# Altium footprint library PcbLib_POW_HugoHamblok.PcbLib: 26 footprints (part 2 of 2)
Each footprint in its own frame and in the unit in brackets; x right, y up, seen from the top. Pads: shape width x height; smd on the part's side, far side on the other; paste and mask are expansions set on the pad; w line width, h text height; cw(c..) or ccw(c..) is an arc to the next point about the centre after c.
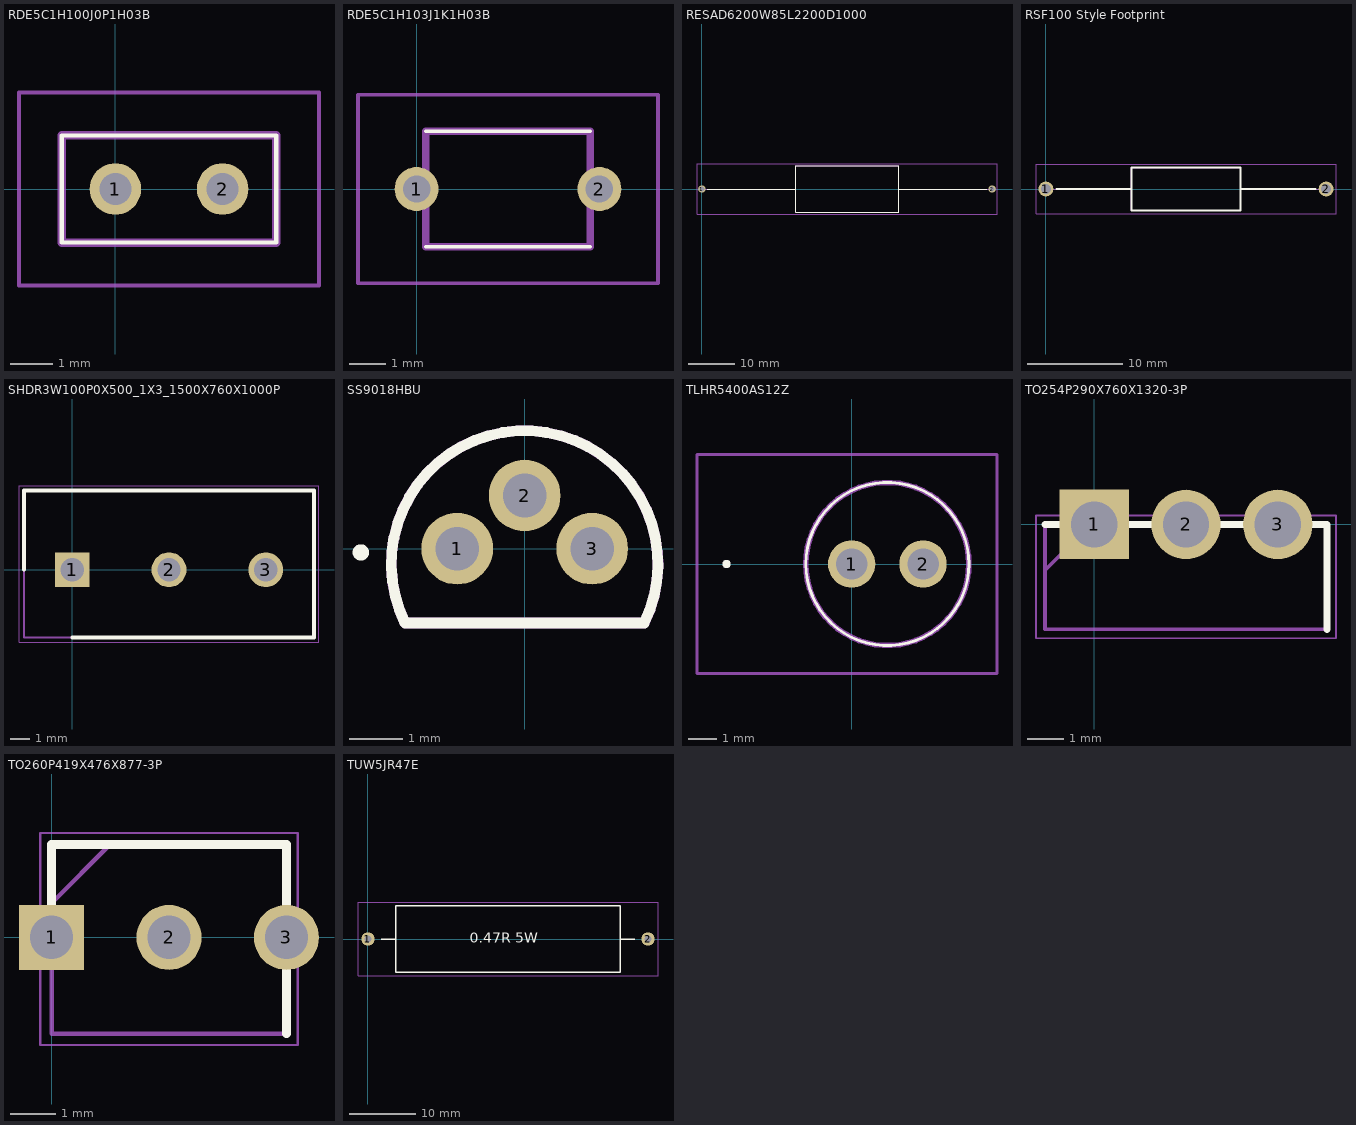
[diagram p1: the footprints below, top view; thin cyan lines are the x and y axes]

## RDE5C1H100J0P1H03B [mm]
pads (2):
  round 1.2 hole 0.75: 1(0,0) 2(2.5,0)
Top Overlay:
  lines w0.1: -1.25,-1.25 -1.25,1.25 3.75,1.25 3.75,-1.25 -1.25,-1.25
Mechanical 13:
  lines w0.2: -1.25,-1.25 -1.25,1.25 3.75,1.25 3.75,-1.25 -1.25,-1.25
Mechanical 15:
  lines w0.1: -2.25,-2.25 -2.25,2.25 4.75,2.25 4.75,-2.25 -2.25,-2.25
3D body "RDER71H104K0S1H03A.stp": height 6.1, standoff -5, extent -1.25,-1.25 3.75,1.25

## RDE5C1H103J1K1H03B [mm]
pads (2):
  round 1.2 hole 0.75: 1(0,0) 2(5,0)
Top Overlay:
  lines w0.1: 0.25,-1.575 4.75,-1.575 ; 0.25,1.575 4.75,1.575
Mechanical 13:
  lines w0.2: 0.25,-1.575 4.75,-1.575 4.75,1.575 0.25,1.575 0.25,-1.575
Mechanical 15:
  lines w0.1: -1.6,-2.575 6.6,-2.575 6.6,2.575 -1.6,2.575 -1.6,-2.575
3D body "RDER71H224K1M1H03A.stp": height 5.1, standoff -5, extent -0.273,-1.575 5.275,1.575

## RESAD6200W85L2200D1000 [mm]
pads (2):
  round 1.575 hole 1.05: 1(0,0) 2(62,0)
Top Overlay:
  lines w0.2: 1.138,0 20,0 ; 42,0 60.862,0 ; 20,-5 42,-5 42,5 20,5 20,-5
Mechanical 13:
  lines w0.1: 0,0 20,0 ; 42,0 62,0 ; 20,-5 42,-5 42,5 20,5 20,-5
Mechanical 15:
  lines w0.05: -1.038,-5.35 63.037,-5.35 63.037,5.35 -1.038,5.35 -1.038,-5.35
3D body "TUW5JR47E.stp": height 11, standoff -11, extent -0.422,-5.5 62.425,5.5

## RSF100 Style Footprint [mm]
pads (2):
  round 1.575 hole 1.05: 1(0,0) 2(29.5,0)
Top Overlay:
  lines w0.2: 1.138,0 9,0 ; 20.5,0 28.362,0 ; 9,-2.25 9,2.25 20.5,2.25 20.5,-2.25 9,-2.25
Mechanical 13:
  lines w0.1: 0,0 9,0 ; 20.5,0 29.5,0 ; 9,-2.25 9,2.25 20.5,2.25 20.5,-2.25 9,-2.25
Mechanical 15:
  lines w0.05: -1.038,-2.6 -1.038,2.6 30.537,2.6 30.537,-2.6 -1.038,-2.6
3D body "RSF100JB-73-2K2.stp": height 5, standoff -5, extent -0.422,-2.497 29.925,2.497

## SHDR3W100P0X500_1X3_1500X760X1000P [mm]
pads (3):
  rect 1.8x1.8 hole 1.2: 1(0,0)
  round 1.8 hole 1.2: 2(5,0) 3(10,0)
Top Overlay:
  lines w0.2: -2.5,0 -2.5,4.1 12.5,4.1 12.5,-3.5 0,-3.5
Mechanical 13:
  lines w0.1: -2.5,-3.5 -2.5,4.1 12.5,4.1 12.5,-3.5 -2.5,-3.5
Mechanical 15:
  lines w0.05: -2.75,-3.75 -2.75,4.35 12.75,4.35 12.75,-3.75 -2.75,-3.75
3D body "TB002-500-03BE.stp": height 10, standoff -4.65, extent -2.5,-3.5 12.5,4.1

## SS9018HBU [mm]
pads (3):
  round 1.35 hole 0.82: 1(-1.27,0) 2(0,1) 3(1.27,0)
Top Overlay:
  circle w0.2: c-3.084,-0.07 r0.053
  lines w0.2: -2.25,-1.4 2.25,-1.4 ; -2.25,-1.401 cw(c0,-0.289) 2.251,-1.397
Mechanical 13:
  lines w0.2: -2.25,-1.4 2.25,-1.4 ; -2.25,-1.4 cw(c0,-0.289) 2.25,-1.4

## TLHR5400AS12Z [mm]
pads (2):
  round 1.68 hole 1.12: 1(0,0) 2(2.54,0)
Top Overlay:
  lines w0.1: -1.63,0 cw(c1.27,0) 4.17,0 cw(c1.27,0) -1.63,0
  lines w0.2: -4.5,0 ccw(c-4.45,0) -4.4,0 ; -4.5,0 cw(c-4.45,0) -4.4,0 ; -4.5,0 ccw(c-4.45,0) -4.4,0
Mechanical 13:
  lines w0.2: -1.63,0 cw(c1.27,0) 4.17,0 cw(c1.27,0) -1.63,0
Mechanical 15:
  lines w0.1: -5.5,-3.9 -5.5,3.9 5.17,3.9 5.17,-3.9 -5.5,-3.9
3D body "TLHR5400-AS12Z.stp": height 12.9, standoff -5, extent -1.63,-2.9 4.17,2.9

## TO254P290X760X1320-3P [mm]
pads (3):
  rect 1.92x1.92 hole 1.28: 1(0,0)
  round 1.92 hole 1.28: 2(2.54,0) 3(5.08,0)
Top Overlay:
  lines w0.2: -1.36,0 6.44,0 6.44,-2.9
Mechanical 13:
  lines w0.1: -1.36,-1.27 -0.09,0 ; -1.36,-2.9 -1.36,0 6.44,0 6.44,-2.9 -1.36,-2.9
Mechanical 15:
  lines w0.05: -1.61,-3.15 -1.61,0.25 6.69,0.25 6.69,-3.15 -1.61,-3.15
3D body "2SD882.stp": height 12.92, standoff -21.55, extent -1.26,-2.9 6.34,0.255

## TO260P419X476X877-3P [mm]
pads (3):
  rect 1.44x1.44 hole 0.96: 1(0,0)
  round 1.44 hole 0.96: 2(2.6,0) 3(5.2,0)
Top Overlay:
  lines w0.2: 0,0 0,2.06 5.2,2.06 5.2,-2.13
Mechanical 13:
  lines w0.1: 0,0.76 1.3,2.06 ; 0,-2.13 0,2.06 5.2,2.06 5.2,-2.13 0,-2.13
Mechanical 15:
  lines w0.05: -0.25,-2.38 -0.25,2.31 5.45,2.31 5.45,-2.38 -0.25,-2.38
3D body "BC557BTA.stp": height 7.82, standoff -9.65, extent -0.345,-2.13 5.545,2.06

## TUW5JR47E [mm]
pads (2):
  round 2 hole 1: 1(0,0) 2(42,0)
Top Overlay:
  lines w0.2: 2,0 4.175,0 ; 37.825,0 40,0 ; 4.175,0 4.175,-5 37.825,-5 37.825,5 4.175,5 4.175,0
  text "0.47R 5W" at 15.254,-0.546 h1.52
Mechanical 15:
  lines w0.05: -1.5,-5.5 43.5,-5.5 43.5,5.5 -1.5,5.5 -1.5,0.1 -1.5,-5.5